# Altium schematic symbol library JS202011SCQN.SchLib: 1 symbol
Pins are listed as number, name and electrical type; pins without a type are passive.

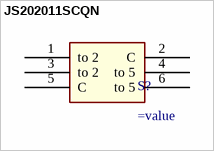
[diagram p0: symbol JS202011SCQN]

## JS202011SCQN
designator S?
pins: 1 to 2, 2 C, 3 to 2, 4 to 5, 5 C, 6 to 5